# EAGLE library part TPS75003 (library texas)
Triple-Supply Power Management IC for Powering FPGAs and DSPs Source: http://focus.ti.com/lit/ds/symlink/tps75003.pdf
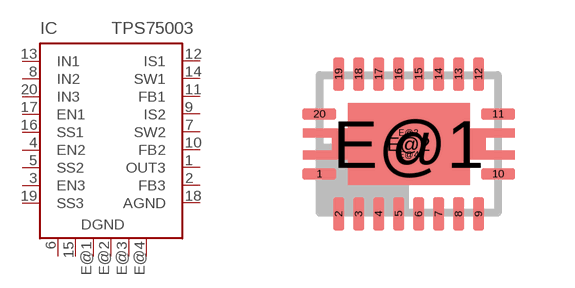
[diagram p31: symbol with the pads of R-PQFP-N20; footprint R-PQFP-N20]

Designator prefix IC

## TPS75003 (MPN: TPS75003RHLT; OC_FARNELL: 9969187; OC_NEWARK: 93K0913)  [R-PQFP-N20]
1  OUT3  out
2  FB3  in
3  EN3  in
4  EN2  in
5  SS2  in
6  DGND  pwr
7  SW2  in
8  IN2  in
9  IS2  in
10  FB2  in
11  FB1  in
12  IS1  in
13  IN1  in
14  SW1  in
15  DGND  pwr
16  SS1  in
17  EN1  in
18  AGND  pwr
19  SS3  in
20  IN3  in
E@1  DGND  pwr
E@2  DGND  pwr
E@3  DGND  pwr
E@4  DGND  pwr

## Footprint R-PQFP-N20 (pad centres in mm)
PQFP20 RHL PACKAGE 4.5mm x 3.5mm QFN Source: http://focus.ti.com/lit/ds/symlink/tps75003.pdf
smd 0.85 x 0.28: 1 -2.235,-0.75; 10 2.235,-0.75; 11 2.235,0.75; 20 -2.235,0.75
smd 0.28 x 0.85: 2 -1.75,-1.75; 3 -1.25,-1.75; 4 -0.75,-1.75; 5 -0.25,-1.75; 6 0.25,-1.75; 7 0.75,-1.75; 8 1.25,-1.75; 9 1.75,-1.75; 12 1.75,1.75; 13 1.25,1.75; 14 0.75,1.75; 15 0.25,1.75; 16 -0.25,1.75; 17 -0.75,1.75; 18 -1.25,1.75; 19 -1.75,1.75
smd 3.05 x 2.05: E@1 0,0
smd 3.85 x 0.5: E@2 0,0
smd 5.3 x 0.23: E@3 0,0.275; E@4 0,-0.275